# Altium integrated library 6130XX11821_61300811821.IntLib: 1 symbol
Pins are listed as number, name and electrical type; pins without a type are passive.

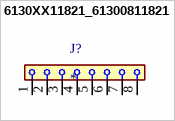
[diagram p0: symbol 6130XX11821_61300811821]

## 6130XX11821_61300811821
designator J?
Female header Temperature range: -40 ... +125 Â°C Colour: Black Connector Design: Single Row / Straight / Without Shroud Connector Termination: THT Contact material: Gold-Plated Copper Gender of contacts: Female Housing Material: Polybutylene Terephthalat; MF: WÃ¼rth Elektronik; MP: 61300811821; SnapEDA_Link: https://www.snapeda.com/parts/61300811821/W%25C3%25BCrth+Elektronik+Midcom/view-part/?ref=snap; Package: None; Value: *; Check_prices: https://www.snapeda.com/parts/61300811821/W%25C3%25BCrth+Elektronik+Midcom/view-part/?ref=eda
footprint 61300811821
pins: 1, 2, 3, 4, 5, 6, 7, 8